# EAGLE library part M50-3142045 (library connectors)
Headers & Wire Housings 20 WAY SIL VERT SMT SKT Source: Datasheet <https://componentsearchengine.com/Datasheets/1/M50-3142045.pdf>
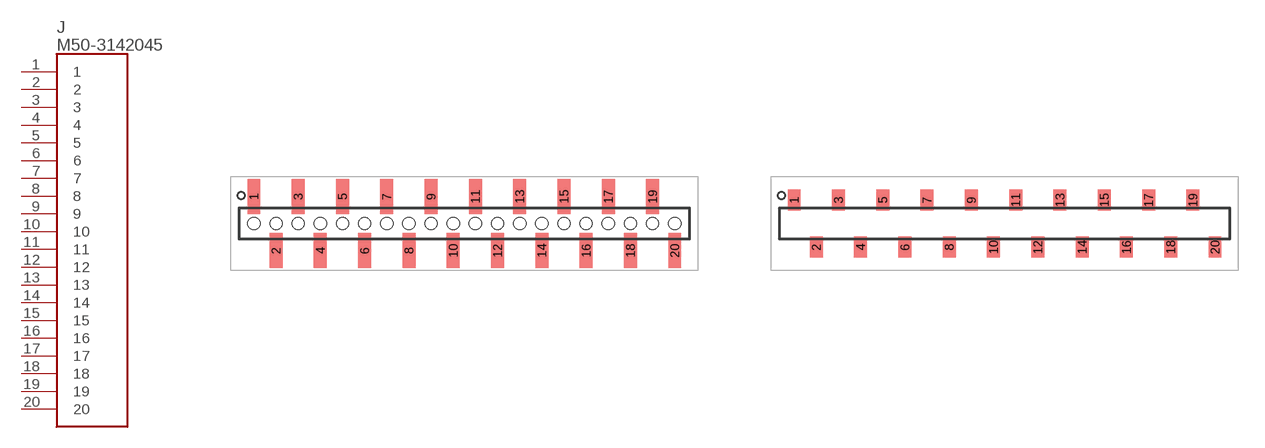
[diagram p21: symbol with the pads of M503142045; footprints M503142045, M503142045-NO_HOLE]

Designator prefix J

## M50-3142045 (DESCRIPTION: Headers & Wire Housings 20 WAY SIL VERT SMT SKT; HEIGHT: 3.6mm; MANUFACTURER_NAME: Harwin; MANUFACTURER_PART_NUMBER: M50-3142045; MOUSER_PART_NUMBER: 855-M50-3142045; MOUSER_PRICE-STOCK: https://www.mouser.co.uk/ProductDetail/Harwin/M50-3142045/?qs=%252BdQmOuGyFcFpETieNSWjAg%3D%3D)  [M503142045]
1  1
2  2
3  3
4  4
5  5
6  6
7  7
8  8
9  9
10  10
11  11
12  12
13  13
14  14
15  15
16  16
17  17
18  18
19  19
20  20

## M50-3142045NO-HOLE  [M503142045-NO_HOLE]
Pads as for M503142045

## M50-3142045THT  [20X1_HEADER_THT_1.27MM]
Pads as for M503142045

## Footprint M503142045 (pad centres in mm)
M50-3142045-1
smd 0.74 x 2: 1 -12.065,1.55; 2 -10.795,-1.55; 3 -9.525,1.55; 4 -8.255,-1.55; 5 -6.985,1.55; 6 -5.715,-1.55; 7 -4.445,1.55; 8 -3.175,-1.55; 9 -1.905,1.55; 10 -0.635,-1.55; 11 0.635,1.55; 12 1.905,-1.55; 13 3.175,1.55; 14 4.445,-1.55; 15 5.715,1.55; 16 6.985,-1.55; 17 8.255,1.55; 18 9.525,-1.55; 19 10.795,1.55; 20 12.065,-1.55
hole 0.7 at -12.065,0
hole 0.7 at -10.795,0
hole 0.7 at -9.525,0
hole 0.7 at -8.255,0
hole 0.7 at -6.985,0
hole 0.7 at -5.715,0
hole 0.7 at -4.445,0
hole 0.7 at -3.175,0
hole 0.7 at -1.905,0
hole 0.7 at -0.635,0
hole 0.7 at 0.635,0
hole 0.7 at 1.905,0
hole 0.7 at 3.175,0
hole 0.7 at 4.445,0
hole 0.7 at 5.715,0
hole 0.7 at 6.985,0
hole 0.7 at 8.255,0
hole 0.7 at 9.525,0
hole 0.7 at 10.795,0
hole 0.7 at 12.065,0

## Footprint M503142045-NO_HOLE (pad centres in mm)
M50-3142045-1
smd 0.74 x 1.2: 1 -12.065,1.35; 2 -10.795,-1.35; 3 -9.525,1.35; 4 -8.255,-1.35; 5 -6.985,1.35; 6 -5.715,-1.35; 7 -4.445,1.35; 8 -3.175,-1.35; 9 -1.905,1.35; 10 -0.635,-1.35; 11 0.635,1.35; 12 1.905,-1.35; 13 3.175,1.35; 14 4.445,-1.35; 15 5.715,1.35; 16 6.985,-1.35; 17 8.255,1.35; 18 9.525,-1.35; 19 10.795,1.35; 20 12.065,-1.35

## Footprint 20X1_HEADER_THT_1.27MM (pad centres in mm)
M50-3142045-1
drill 0.5 pad 0.61 square: 1 -12.065,0
drill 0.5 pad 0.61: 2 -10.795,0; 3 -9.525,0; 4 -8.255,0; 5 -6.985,0; 6 -5.715,0; 7 -4.445,0; 8 -3.175,0; 9 -1.905,0; 10 -0.635,0; 11 0.635,0; 12 1.905,0; 13 3.175,0; 14 4.445,0; 15 5.715,0; 16 6.985,0; 17 8.255,0; 18 9.525,0; 19 10.795,0; 20 12.065,0